# EAGLE library part TRJ0011_TRJ0011 (library reembox)
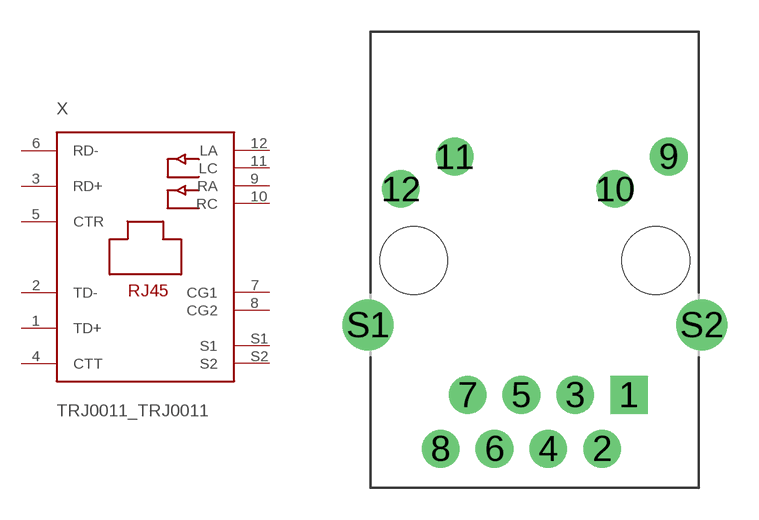
[diagram p11: symbol with the pads of TRJ0011_TRJ0011; footprint TRJ0011_TRJ0011]

Designator prefix X

## TRJ0011_TRJ0011  [TRJ0011_TRJ0011]
1  TD+  pas
2  TD-  pas
3  RD+  pas
4  CTT  pas
5  CTR  pas
6  RD-  pas
7  CG1  pas
8  CG2  pas
9  RA  pas
10  RC  pas
11  LC  pas
12  LA  pas
S1  S1  pas
S2  S2  pas

## Footprint TRJ0011_TRJ0011 (pad centres in mm)
TRXCOM TRJ0011BANL Pollin 94-450 001
drill 0.9 pad 1.778 square: 1 4.445,-6.35
drill 0.9 pad 1.778: 2 3.175,-8.89; 3 1.905,-6.35; 4 0.635,-8.89; 5 -0.635,-6.35; 6 -1.905,-8.89; 7 -3.175,-6.35; 8 -4.445,-8.89; 9 6.325,4.902; 10 3.785,3.378; 11 -3.785,4.902; 12 -6.325,3.378
drill 1.6: S1 -7.874,-3.048; S2 7.874,-3.048
hole 3.2 at -5.715,0
hole 3.2 at 5.715,0